# Altium schematic symbol library P78E05.SchLib: 1 symbol
Pins are listed as number, name and electrical type; pins without a type are passive.

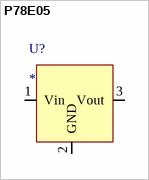
[diagram p0: symbol P78E05]

## P78E05
designator U?
MfrPartNo: *
pins: 1 Vin (power), 2 GND (power), 3 Vout (power)